# Altium schematic symbol library INA214AIR.SchLib: 1 symbol
Pins are listed as number, name and electrical type; pins without a type are passive.

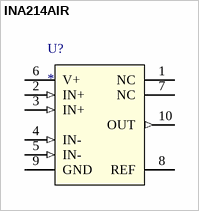
[diagram p0: symbol INA214AIR]

## INA214AIR
designator U?
pins: 1 NC, 2 IN+ (in), 3 IN+ (in), 4 IN- (in), 5 IN- (in), 6 V+ (power), 7 NC, 8 REF, 9 GND (power), 10 OUT (out)